# Altium schematic symbol library TR2I-433.Schlib: 1 symbol
Pins are listed as number, name and electrical type; pins without a type are passive.

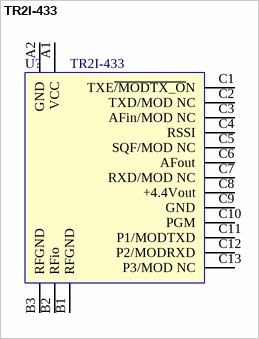
[diagram p0: symbol TR2I-433]

## TR2I-433
designator U?
Radio Module, UHF; 4 Manufacturer: Radiometrix; 5 Manufacturer P/N: TR2I-433-5; 6 P/N: 222-2088; 1 Type: UHF Radio Module; 2 Description: Multichannel, Narrow-band, Internal Modem; Cost: $163.00; ComponentLink3URL: http://www.lemosint.com/; ComponentLink2Description: Datasheet; ComponentLink1URL: http://www.radiometrix.co.uk/; ComponentLink1Description: Manufacturer Link; ComponentLink2URL: http://www.radiometrix.co.uk/dsheets/tr2m.pdf; ComponentLink3Description: Supplier Link
pins: A1 VCC (power), A2 GND (power), B1 RFGND (power), B2 RFio, B3 RFGND (power), C1 TXE~{/MODTX_O}N, C2 TXD/MOD NC, C3 AFin/MOD NC, C4 RSSI, C5 SQF/MOD NC, C6 AFout, C7 RXD/MOD NC, C8 +4.4Vout (power), C9 GND, C10 PGM, C11 P1/MODTXD, C12 P2/MODRXD, C13 P3/MOD NC